# EAGLE library part 74VHC125 (library OPL)
Quad Buffer/Line Driver;3-state
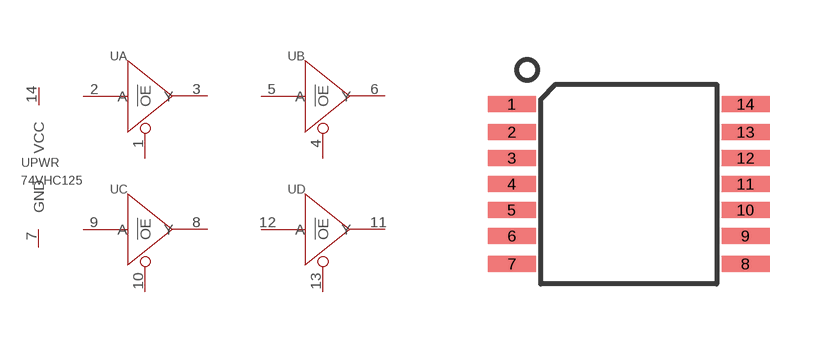
[diagram p3: symbol with the pads of TSSOP14; footprint TSSOP14]

Designator prefix U; gates A=BUFFER PWR=VCC-GND B=BUFFER C=BUFFER D=BUFFER

## 74VHC125-1050030P1  [TSSOP14]
1  A:!OE
2  A:A
3  A:Y
4  B:!OE
5  B:A
6  B:Y
7  PWR:GND  sup
8  C:Y
9  C:A
10  C:!OE
11  D:Y
12  D:A
13  D:!OE
14  PWR:VCC  sup

## Footprint TSSOP14 (pad centres in mm)
smd 1.2 x 0.4: 1 -2.925,2; 2 -2.925,1.3; 3 -2.925,0.65; 4 -2.925,0; 5 -2.925,-0.65; 6 -2.925,-1.3; 7 -2.925,-2; 8 2.925,-2; 9 2.925,-1.3; 10 2.925,-0.65; 11 2.925,0; 12 2.925,0.65; 13 2.925,1.3; 14 2.925,2